# Altium schematic symbol library Dev_Kit_esp32.SCHLIB: 22 symbols
Pins are listed as number, name and electrical type; pins without a type are passive.

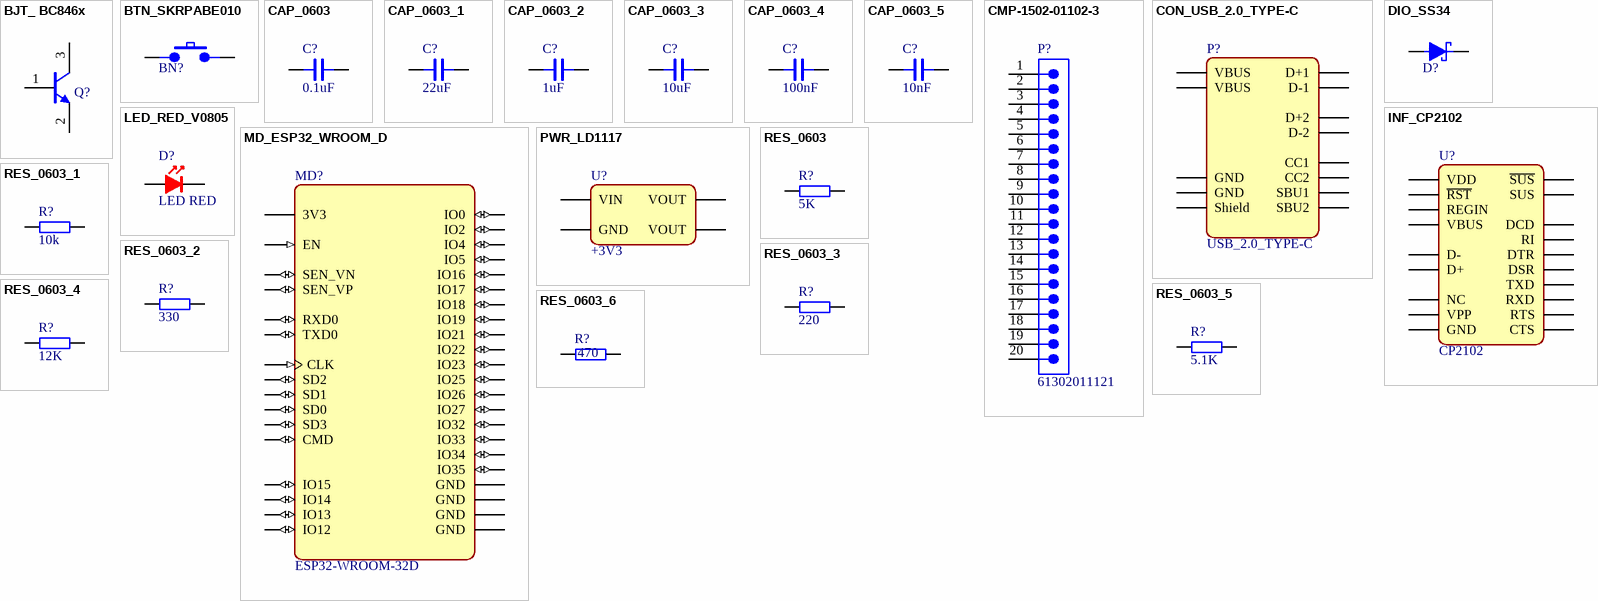
[diagram p0: symbols BJT_ BC846x to RES_0603_6]

## BJT_ BC846x
designator Q?, comment BC846x  (value not drawn)
Single Bipolar Transistor, NPN, 65 V, 100 mA, 250 mW, SOT23 (TO-236AB), 3 Pins, Surface Mount; Mrf. Part: ?; LCSC Part: ?; JLCPCB Part: ?
footprint BJT_ BC846x
pins: 1 B, 2 E, 3 C

## BTN_SKRPABE010
designator BN?, comment SKRPABE010  (value not drawn)
3.2mm 2.5mm button 50mA Brick SPST 16V SMD Tactile Switches; Mfr.part: SKRPABE010; JLCPCB Part: ?; LCSC Part: ?
footprint BTN_SKRPABE010
pins: 12, 34

## CAP_0603
designator C?, comment 0.1uF
0603 Multilayer Ceramic Capacitors MLCC - SMD/SMT ROHS; LCSC Part: ?; JLCPCB Part: ?; Mfr. Part: ?; Value: 0.1uF; Voltage: ?
footprint CAP_0603 (Ceramic Capacitors, body 1.6x0.8mm)
pins: 1, 2

## CAP_0603_1
designator C?, comment 22uF
0603 Multilayer Ceramic Capacitors MLCC - SMD/SMT ROHS; LCSC Part: ?; JLCPCB Part: ?; Mfr. Part: ?; Value: 22uF; Voltage: ?
footprint CAP_0603 (Ceramic Capacitors, body 1.6x0.8mm)
pins: 1, 2

## CAP_0603_2
designator C?, comment 1uF
0603 Multilayer Ceramic Capacitors MLCC - SMD/SMT ROHS; LCSC Part: ?; JLCPCB Part: ?; Mfr. Part: ?; Value: 1uF; Voltage: ?
footprint CAP_0603 (Ceramic Capacitors, body 1.6x0.8mm)
pins: 1, 2

## CAP_0603_3
designator C?, comment 10uF
0603 Multilayer Ceramic Capacitors MLCC - SMD/SMT ROHS; LCSC Part: ?; JLCPCB Part: ?; Mfr. Part: ?; Value: 10uF; Voltage: ?
footprint CAP_0603 (Ceramic Capacitors, body 1.6x0.8mm)
pins: 1, 2

## CAP_0603_4
designator C?, comment 100nF
0603 Multilayer Ceramic Capacitors MLCC - SMD/SMT ROHS; LCSC Part: ?; JLCPCB Part: ?; Mfr. Part: ?; Value: 100nF; Voltage: ?
footprint CAP_0603 (Ceramic Capacitors, body 1.6x0.8mm)
pins: 1, 2

## CAP_0603_5
designator C?, comment 10nF
0603 Multilayer Ceramic Capacitors MLCC - SMD/SMT ROHS; LCSC Part: ?; JLCPCB Part: ?; Mfr. Part: ?; Value: 10nF; Voltage: ?
footprint CAP_0603 (Ceramic Capacitors, body 1.6x0.8mm)
pins: 1, 2

## CMP-1502-01102-3
designator P?, comment 61302011121
NexarPartId: 32855554; Operating Supply Voltage: 250V; Gender: Male; Current Rating: 3A; Contact Resistance: 20mΩ; Number of Contacts: 20; Pitch: 2.54mm; Connector Type: Male Pin; RoHS: Compliant; Contact Plating: Gold; REACH SVHC: Unknown; Packaging: Bulk; Lead Pitch: 2.54mm; Mount: Through Hole; Termination: Solder; Number of Pins: 20; Contact Mating Length: 5.9944mm; Number of Rows: 1; Color: Black; Contact Material: Copper; Orientation: Vertical; Number of Positions: 20
footprint 61302011121 (THT Vertical Pin Header WR-PHD, Pitch 2.54 mm, Single Row, 20 pins)
pins: 1, 2, 3, 4, 5, 6, 7, 8, 9, 10, 11, 12, 13, 14, 15, 16, 17, 18, 19, 20

## CON_USB_2.0_TYPE-C
designator P?, comment USB_2.0_TYPE-C
USB Connectors USB Jack 2.0, Type-C, Horizontal SMT; Mrf. Part: ?; LCSC Part: ?; JLCPCB Part: ?
footprint CON_USB_2.0_TYPE-C
pins: A1/B12 GND, A4/B9 VBUS, A5 CC1, A6 D+1, A7 D-1, A8 SBU1, A9/B4 VBUS, A12/B1 GND, B5 CC2, B6 D+2, B7 D-2, B8 SBU2, Shell Shield

## DIO_SS34
designator D?, comment SS34  (value not drawn)
40V 500mV@3A 3A SMC (SBD); Mfr. Part: ?; JLCPCB Part: ?; LCSC Part: ?
footprint DIO_SMA (Molded Diode, 2-Leads, Body 4.25x2.50mm, IPC Medium Density)
footprint DIO_SMB (Molded Diode, 2-Leads, Body 4.31x3.62mm, IPC Medium Density)
pins: A, C

## INF_CP2102
designator U?, comment CP2102
USB to UART bridge USB 2.0 3.3V, CP2102-GMR, VFQFN-28; Mrf. Part: ?; LCSC Part: *; JLCPCB Part: ?
footprint INF_CP2102
pins: 1 DCD, 2 RI, 3 GND, 4 D+, 5 D-, 6 VDD, 7 REGIN, 8 VBUS, 9 ~{RST}, 10,13,14,15,16,17,19,20,21,22 NC, 11 ~{SUS}, 12 SUS, 18 VPP, 23 CTS, 24 RTS, 25 RXD, 26 TXD, 27 DSR, 28 DTR

## LED_RED_V0805
designator D?, comment LED RED
20mA 615nm~630nm RED; JLCPCB Part: ?; LCSC Part: ?; Mrf. Part: ?
footprint LED_RED_V0805
pins: A 2, C 1

## MD_ESP32_WROOM_D
designator MD?, comment ESP32-WROOM-32D
core ESP32-D0WD, 32Mbits, 3.3V, 40Mhz, onboard antenna; Mrf. Part: ?; LCSCPCB Part: ?; JLCPCB Part: ?
footprint MD_ESP32_WROOM_D
pins: 1 GND, 2 3V3, 3 EN (in), 4 SEN_VP (io), 5 SEN_VN (io), 6 IO34 (io), 7 IO35 (io), 8 IO32 (io), 9 IO33 (io), 10 IO25 (io), 11 IO26 (io), 12 IO27 (io), 13 IO14 (io), 14 IO12 (io), 15 GND (power), 16 IO13 (io), 17 SD2 (io), 18 SD3 (io), 19 CMD (io), 20 CLK (in), 21 SD0 (io), 22 SD1 (io), 23 IO15 (io), 24 IO2 (io), 25 IO0 (io), 26 IO4 (io), 27 IO16 (io), 28 IO17 (io), 29 IO5 (io), 30 IO18 (io), 31 IO19 (io), 33 IO21 (io), 34 RXD0 (io), 35 TXD0 (io), 36 IO22 (io), 37 IO23 (io), 38 GND (power), 39 GND (power)

## PWR_LD1117
designator U?, comment +3V3
Linear Voltage Regulators (LDO); Mrf. Part: ?; LCSC Part: ?; JLCPCB Part: ?; Value: +3V3
footprint PWR_LD1117_SOT223
pins: 1 GND, 2  VOUT, 3 VIN, 4 VOUT

## RES_0603
designator R?, comment 5K
0603 Thick Film Resistor - Surface Mount ROHS; Mfr. Part: ?; LCSC Part: ?; JLCPCB Part: ?; Value: 5K
footprint RES_0603 (Thick Film Resistors, SMT, body size 1.6x0.8mm)
pins: 1, 2

## RES_0603_1
designator R?, comment 10k
0603 Thick Film Resistor - Surface Mount ROHS; Mfr. Part: ?; LCSC Part: ?; JLCPCB Part: ?; Value: 10k
footprint RES_0603 (Thick Film Resistors, SMT, body size 1.6x0.8mm)
pins: 1, 2

## RES_0603_2
designator R?, comment 330
0603 Thick Film Resistor - Surface Mount ROHS; Mfr. Part: ?; LCSC Part: ?; JLCPCB Part: ?; Value: 330
footprint RES_0603 (Thick Film Resistors, SMT, body size 1.6x0.8mm)
pins: 1, 2

## RES_0603_3
designator R?, comment 220
0603 Thick Film Resistor - Surface Mount ROHS; Mfr. Part: ?; LCSC Part: ?; JLCPCB Part: ?; Value: 220
footprint RES_0603 (Thick Film Resistors, SMT, body size 1.6x0.8mm)
pins: 1, 2

## RES_0603_4
designator R?, comment 12K
0603 Thick Film Resistor - Surface Mount ROHS; Mfr. Part: ?; LCSC Part: ?; JLCPCB Part: ?; Value: 12K
footprint RES_0603 (Thick Film Resistors, SMT, body size 1.6x0.8mm)
pins: 1, 2

## RES_0603_5
designator R?, comment 5.1K
0603 Thick Film Resistor - Surface Mount ROHS; Mfr. Part: ?; LCSC Part: ?; JLCPCB Part: ?; Value: 5.1K
footprint RES_0603 (Thick Film Resistors, SMT, body size 1.6x0.8mm)
pins: 1, 2

## RES_0603_6
designator R?, comment 470
0603 Thick Film Resistor - Surface Mount ROHS; Mfr. Part: ?; LCSC Part: ?; JLCPCB Part: ?; Value: 470
footprint RES_0603 (Thick Film Resistors, SMT, body size 1.6x0.8mm)
pins: 1, 2